# Altium schematic symbol library GRM155C61E475ME15J.SchLib: 1 symbol
Pins are listed as number, name and electrical type; pins without a type are passive.

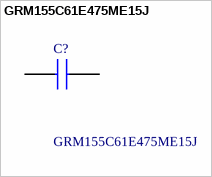
[diagram p0: symbol GRM155C61E475ME15J]

## GRM155C61E475ME15J
designator C?
Multilayer Ceramic Capacitors MLCC - SMD/SMT 25VDC 4.7F 20% X5S; Manufacturer_Name: Murata Electronics; Geometry.Height: 0.55mm; Mouser Part Number: 81-GRM15C61E475ME15J; Mouser Price/Stock: https://www.mouser.co.uk/ProductDetail/Murata-Electronics/GRM155C61E475ME15J?qs=By6Nw2ByBD02p8xq06vhEQ%3D%3D; Manufacturer_Part_Number: GRM155C61E475ME15J; Datasheet Link: http://www.murata.com/~/media/webrenewal/support/library/catalog/products/capacitor/mlcc/c02e.pdf
footprint CAPC1005X55N
pins: 1, 2